# Altium schematic symbol library STM32F407ZET6.SchLib: 1 symbol
Pins are listed as number, name and electrical type; pins without a type are passive.

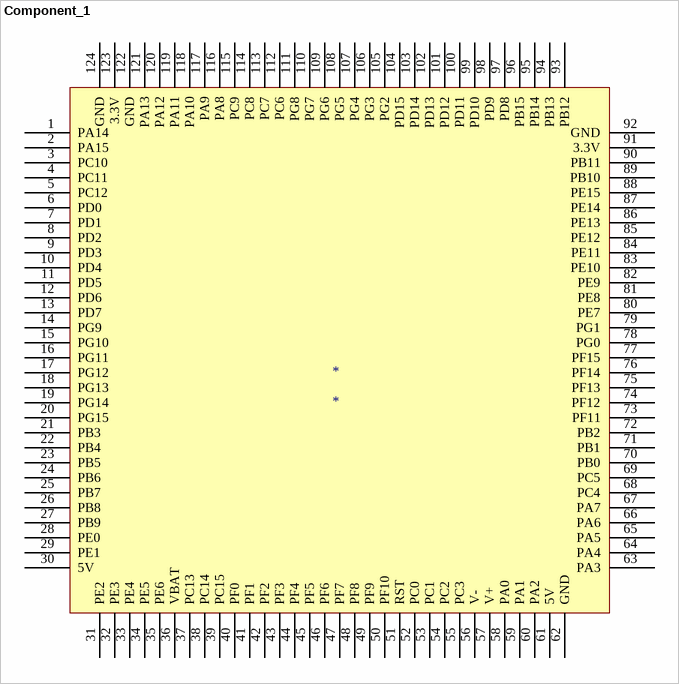
[diagram p0: symbol Component_1]

## Component_1
designator *
pins: 1 PA14, 2 PA15, 3 PC10, 4 PC11, 5 PC12, 6 PD0, 7 PD1, 8 PD2, 9 PD3, 10 PD4, 11 PD5, 12 PD6, 13 PD7, 14 PG9, 15 PG10, 16 PG11, 17 PG12, 18 PG13, 19 PG14, 20 PG15, 21 PB3, 22 PB4, 23 PB5, 24 PB6, 25 PB7, 26 PB8, 27 PB9, 28 PE0, 29 PE1, 30 5V, 31 PE2, 32 PE3, 33 PE4, 34 PE5, 35 PE6, 36 VBAT, 37 PC13, 38 PC14, 39 PC15, 40 PF0, 41 PF1, 42 PF2, 43 PF3, 44 PF4, 45 PF5, 46 PF6, 47 PF7, 48 PF8, 49 PF9, 50 PF10, 51 RST, 52 PC0, 53 PC1, 54 PC2, 55 PC3, 56 V-, 57 V+, 58 PA0, 59 PA1, 60 PA2, 61 5V, 62 GND, 63 PA3, 64 PA4, 65 PA5, 66 PA6, 67 PA7, 68 PC4, 69 PC5, 70 PB0, 71 PB1, 72 PB2, 73 PF11, 74 PF12, 75 PF13, 76 PF14, 77 PF15, 78 PG0, 79 PG1, 80 PE7, 81 PE8, 82 PE9, 83 PE10, 84 PE11, 85 PE12, 86 PE13, 87 PE14, 88 PE15, 89 PB10, 90 PB11, 91 3.3V, 92 GND, 93 PB12, 94 PB13, 95 PB14, 96 PB15, 97 PD8, 98 PD9, 99 PD10, 100 PD11, 101 PD12, 102 PD13, 103 PD14, 104 PD15, 105 PG2, 106 PG3, 107 PG4, 108 PG5, 109 PG6, 110 PG7, 111 PG8, 112 PC6, 113 PC7, 114 PC8, 115 PC9, 116 PA8, 117 PA9, 118 PA10, 119 PA11, 120 PA12, 121 PA13, 122 GND, 123 3.3V, 124 GND